# Altium schematic symbol library Dallas Peripheral Real Time Clock2.SchLib: 1 symbol
Pins are listed as number, name and electrical type; pins without a type are passive.

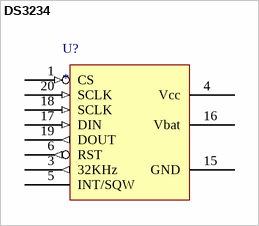
[diagram p0: symbol DS3234]

## DS3234
designator U?
Extremely Accurate SPI Bus RTC with  Integrated Crystal and SRAM
footprint SOIC20_M (20-Pin Small Outline Integrated Circuit 1.27 mm Pitch, IPC Low Density)
pins: 1 CS (in), 2 NC hidden to GND, 3 32KHz (out), 4 Vcc (power), 5 INT/SQW (oc), 6 RST (out), 7 NC hidden to GND, 8 NC hidden to GND, 9 NC hidden to GND, 10 NC hidden to GND, 11 hidden to GND, 12 NC hidden to GND, 13 hidden to GND, 14 hidden to GND, 15 GND, 16 Vbat, 17 DIN (in), 18 SCLK (in), 19 DOUT (out), 20 SCLK (in)